# EAGLE library part PCA9553DP01 (library jason)
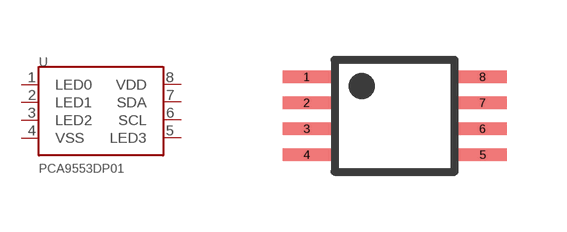
[diagram p0: symbol with the pads of TSSOP8; footprint TSSOP8]

Designator prefix -

## PCA9553DP01  [TSSOP8]
1  LED0  out
2  LED1  out
3  LED2  out
4  VSS  pwr
5  LED3  out
6  SCL
7  SDA
8  VDD  pwr

## Footprint TSSOP8 (pad centres in mm)
Thin Shrink Small Outline Package 0.65mm Pitch, 3.0mm x 3.0mm
smd 1.2 x 0.305: 1 -2.2,0.975; 2 -2.2,0.325; 3 -2.2,-0.325; 4 -2.2,-0.975; 5 2.2,-0.975; 6 2.2,-0.325; 7 2.2,0.325; 8 2.2,0.975